# Altium schematic symbol library RNCF0603DTE9K09.SchLib: 1 symbol
Pins are listed as number, name and electrical type; pins without a type are passive.

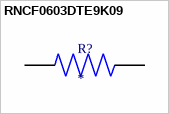
[diagram p0: symbol RNCF0603DTE9K09]

## RNCF0603DTE9K09
designator R?
MF: {'manufacturer': u'Stackpole Electronics Inc'}; MP: RNCF0603DTE9K09; Package: None; Price: None; Value: *; Availability: Unavailable
footprint RESC1508X55N
pins: 1, 2